# Altium footprint library SKC6812RV.PcbLib: 1 footprints
Each footprint in its own frame and in the unit in brackets; x right, y up, seen from the top. Pads: shape width x height; smd on the part's side, far side on the other; paste and mask are expansions set on the pad; w line width, h text height; cw(c..) or ccw(c..) is an arc to the next point about the centre after c.
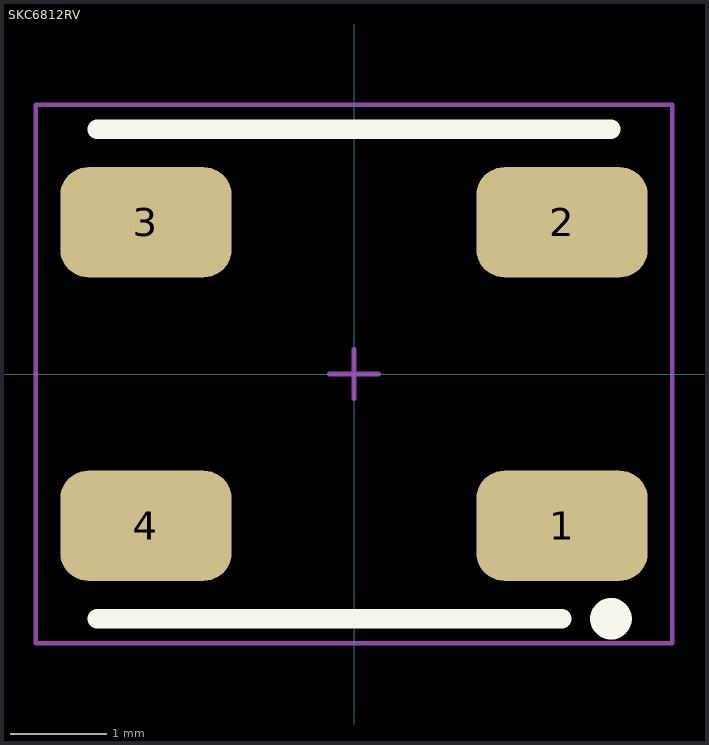
[diagram p0: the footprint, top view; thin cyan lines are the x and y axes]

## SKC6812RV [mil] "Neopixel 5050"
pads (4):
  rrect50% 70x45 smd: 1(85,-62) 2(85,62) 3(-85,62) 4(-85,-62)
Top Overlay:
  circle w9: c105,-100 r4
  lines w7.87: -105,-100 85,-100 ; -105,100 105,100
Mechanical 15:
  lines w1.97: -10,0 10,0 ; 0,-10 0,10 ; -130,-110 -130,110 130,110 130,-110 -130,-110
3D body "WS2812_RGB_LED_updated.stp": height 67.31, standoff 0.38, extent -105.31,-97.44 105.31,97.44